# Altium schematic symbol library APSS Prototype Parts.SchLib: 123 symbols (part 2 of 2)
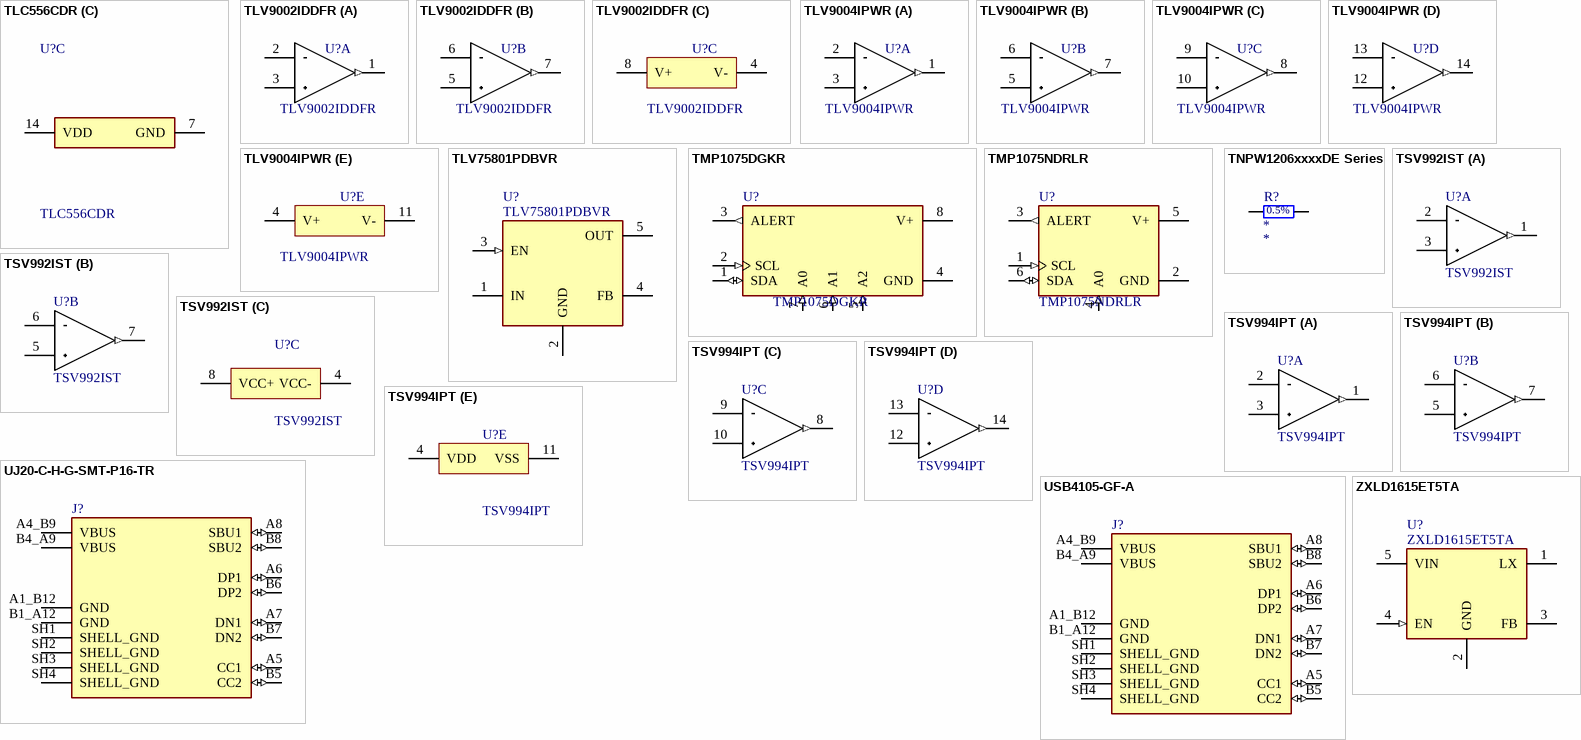
[diagram p4: symbols TLC556CDR to ZXLD1615ET5TA]

## TNPW1206xxxxDE Series
designator R?
Passive - Resistor Series, 1206, 0.5%, 1R - 2M, E24+E96, 0.52W, 1/2W, ±25ppm/°C, -55°C ~ 155°C, 0805 (3216 Metric); APSS Standard Part: APSS Standard; Value Range: 1R ~ 2M; Rated Voltage: 200V; Temperature Coefficient: ±200ppm/°C; Tolerance: 0.5%; Power: 0.52W; E Series: E24+E96; Temp Range: -55°C ~ 155°C; Supplier 1: Digikey; Package: 0805; MF Part No.: *; Value: *
footprint RESISTOR_1206_3216M_55N
pins: 1, 2

## TSV992IST
designator U?
IC - Opamp, High Speed, 2-Channel, 20MHz GBWP, RRIO, 2.5V to 5.5V, -40 to 125, 8-MSOP; APSS Standard Part: APSS Standard; Temp Range: -40°C ~ 125°C; MF Part No.: TSV992IST; Package: MSOP-8 0.65mm; Supplier 1: Digikey; Supplier 1 Part No.: 497-5836-1-ND; Rated Voltage: 5.5V
footprint MSOP-8N-3mmBody-1.1mm (MSOP, 8 pin, 3mm wide, nominal pads, 1.1mm high)
part A pins: 1 OUT1 (out), 2 IN1-, 3 IN1+
part B pins: 5 IN2+, 6 IN2-, 7 OUT1 (out)
part C pins: 4 VCC- (power), 8 VCC+ (power)

## TSV994IPT
designator U?
IC - Opamp, High Speed, 4-Channel, 30MHz GBWP, RRIO, 2.5V to 5.5V, -40 to 125, 14-TSSOP; APSS Standard Part: APSS Standard; Temp Range: -40°C ~ 125°C; MF Part No.: TSV994IPT; Package: TSSOP-14; Supplier 1: Digikey; Supplier 1 Part No.: 497-6003-1-ND; Rated Voltage: 5.5V
footprint TSSOP65P640X120-14N (TSSOP/MSOP/VSSOP, 4.4mm wide, 14 pin nominal)
part A pins: 1 OUT1 (out), 2 IN1-, 3 IN1+
part B pins: 5 IN2+, 6 IN2-, 7 OUT2 (out)
part C pins: 8 OUT3 (out), 9 IN3-, 10 IN3+
part D pins: 12 IN4+, 13 IN4-, 14 OUT4 (out)
part E pins: 4 VDD (power), 11 VSS (power)

## UJ20-C-H-G-SMT-P16-TR
designator J?  (value not drawn)
Header - USB-C 2.0 Surface Mount, Receptacle Connector 24 Position (16+8 Dummy), Right Angle, Long mounting legs; APSS Standard Part: APSS Standard; MF Part No.: USB4105-GF-A; Rated Voltage: 48VDC; Temp Range: -40°C ~ 85°C; Supplier 1: Digikey; Supplier 1 Part No.: 2073-USB4105-GF-ACT-ND
footprint SAMESKY_UJ20-C-H-G-SMT-P16-TR
pins: A1_B12 GND (power), A4_B9 VBUS (power), A5 CC1 (io), A6 DP1 (io), A7 DN1 (io), A8 SBU1 (io), B1_A12 GND (power), B4_A9 VBUS (power), B5 CC2 (io), B6 DP2 (io), B7 DN2 (io), B8 SBU2 (io), SH1 SHELL_GND (power), SH2 SHELL_GND (power), SH3 SHELL_GND (power), SH4 SHELL_GND (power)

## USB4105-GF-A
designator J?  (value not drawn)
Header - USB-C 2.0 Surface Mount, Receptacle Connector 24 Position (16+8 Dummy), Right Angle, Short mounting legs; APSS Standard Part: APSS Standard; Rated Voltage: 48VDC; Temp Range: -40°C ~ 85°C; MF Part No.: USB4105-GF-A; Supplier 1: Digikey; Supplier 1 Part No.: 2073-USB4105-GF-ACT-ND
footprint GCT_USB4105-GF-A
pins: A1_B12 GND (power), A4_B9 VBUS (power), A5 CC1 (io), A6 DP1 (io), A7 DN1 (io), A8 SBU1 (io), B1_A12 GND (power), B4_A9 VBUS (power), B5 CC2 (io), B6 DP2 (io), B7 DN2 (io), B8 SBU2 (io), SH1 SHELL_GND (power), SH2 SHELL_GND (power), SH3 SHELL_GND (power), SH4 SHELL_GND (power)

## ZXLD1615ET5TA
designator U?
IC - Regulator, SEPIC, 500 mA, 2.5V to 5.5V In, 2.5V to 28V Out, SOT23-5; APSS Standard Part: APSS Standard; Temp Range: -40°C ~ 85°C (TA); MF Part No.: ZXLD1615ET5TA; Package: SOT-23-5; Supplier 1: Digikey; Supplier 1 Part No.: ZXLD1615ET5CT-ND; Rated Voltage: 5.5V
footprint SOT23-5N-1.45mm (SOT23, 5 pins, nominal pads, 1.45mm high)
pins: 1 LX (power), 2 GND (power), 3 FB, 4 EN (in), 5 VIN (power)